# Altium footprint library Mechanical.PcbLib: 37 footprints (part 2 of 3)
Each footprint in its own frame and in the unit in brackets; x right, y up, seen from the top. Pads: shape width x height; smd on the part's side, far side on the other; paste and mask are expansions set on the pad; w line width, h text height; cw(c..) or ccw(c..) is an arc to the next point about the centre after c.
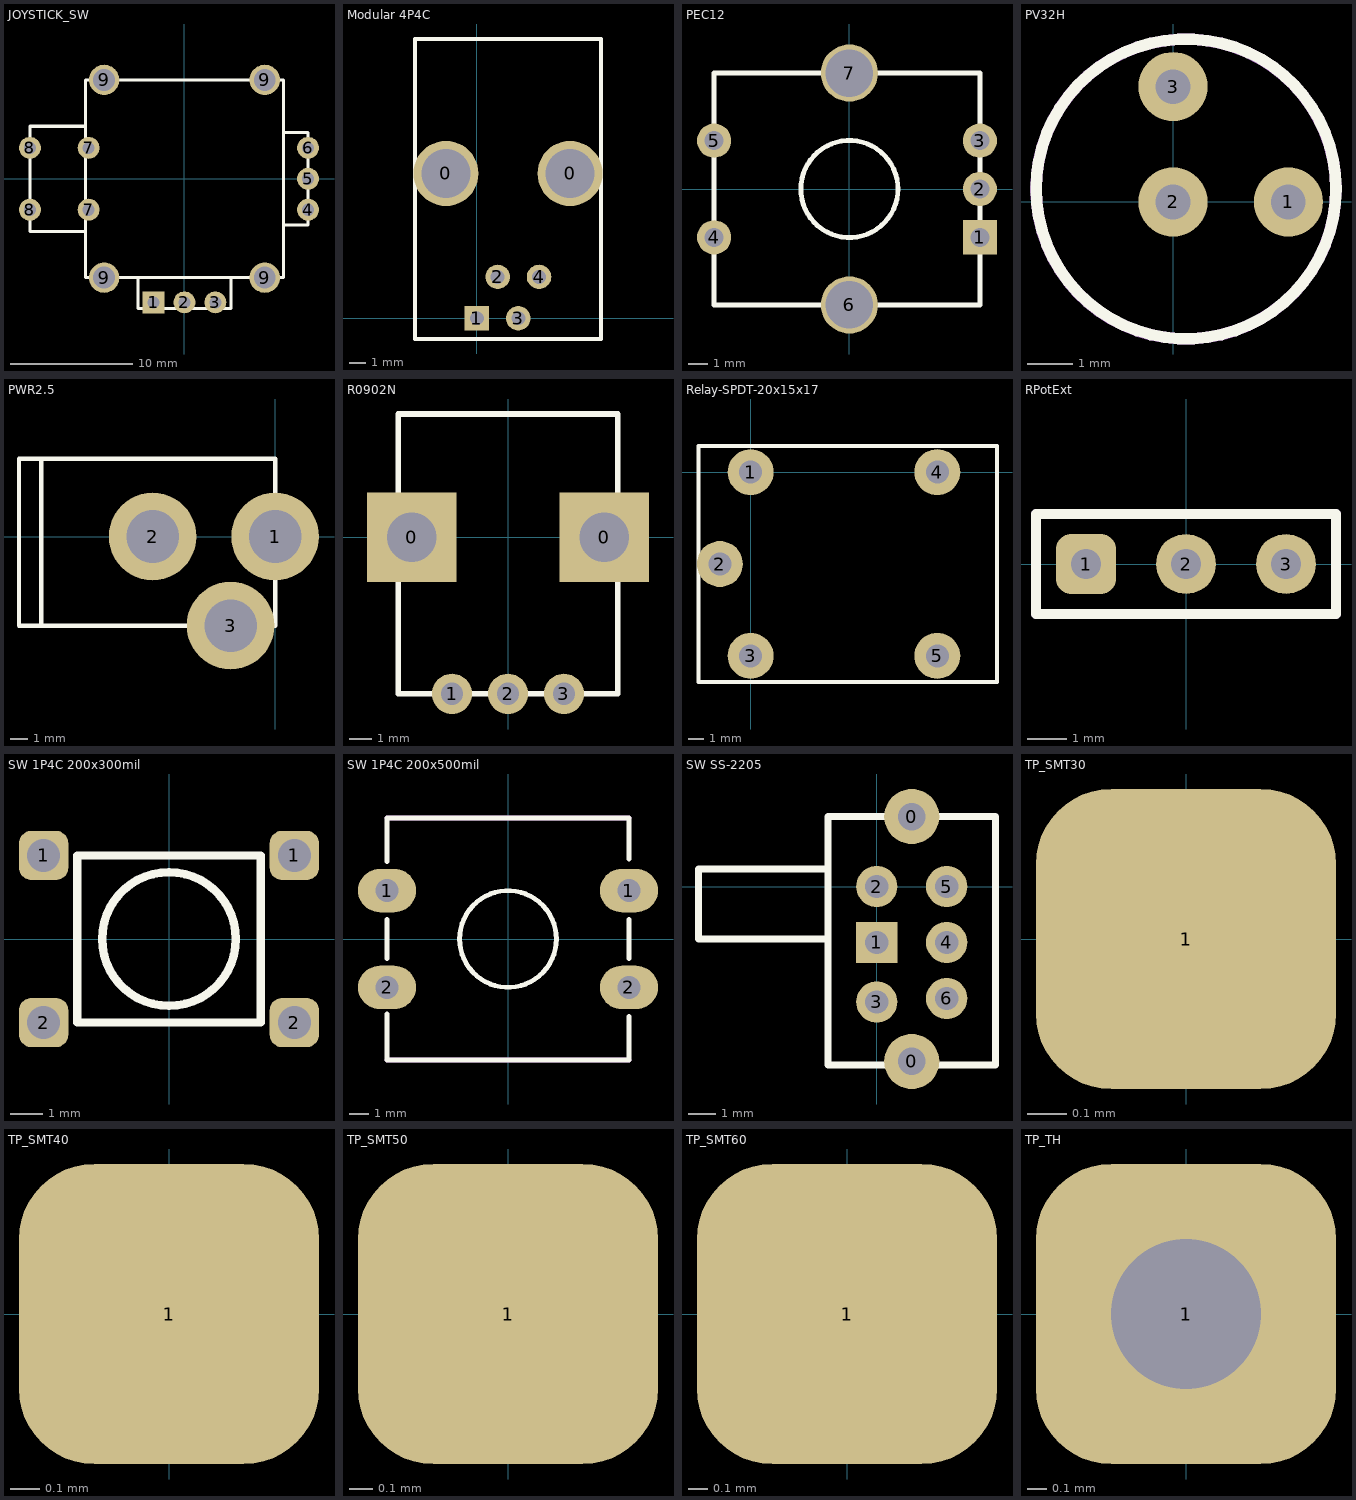
[diagram p1: the footprints below, top view; thin cyan lines are the x and y axes]

## JOYSTICK_SW [mm] "JOYSTICK"
pads (14):
  rect 1.8x1.8 hole 1: 1(-2.54,-10.16)
  round 1.8 hole 1: 2(0,-10.16) 3(2.54,-10.16) 4(10.16,-2.54) 5(10.16,0) 6(10.16,2.54) 7(-7.874,-2.54) 7(-7.874,2.54) 8(-12.7,-2.54) 8(-12.7,2.54)
  round 2.5 hole 1.8: 9(-6.604,-8.128) 9(-6.604,8.128) 9(6.604,-8.128) 9(6.604,8.128)
Top Overlay:
  lines w0.254: -8.128,-4.318 -12.7,-4.318 -12.7,4.318 -8.128,4.318 ; -3.81,-8.128 -3.81,-10.668 -2.54,-10.668 ; -3.302,-10.668 3.81,-10.668 3.81,-8.128 -8.128,-8.128 -8.128,8.128 8.128,8.128 8.128,-8.128 ; 3.302,-8.128 8.128,-8.128 ; 8.128,-3.81 10.16,-3.81 10.16,3.81 8.128,3.81 ; 8.128,-8.128 6.858,-8.128 8.128,-8.128

## Modular 4P4C [mm] "Modular jack 4P4C"
height 1.524
pads (6):
  round 4 hole 3: 0(-1.905,8.89) 0(5.715,8.89)
  rect 1.5x1.5 hole 0.85: 1(0,0)
  round 1.5 hole 0.85: 2(1.27,2.54) 3(2.54,0) 4(3.81,2.54)
Top Overlay:
  lines w0.254: -3.81,-1.27 -3.81,17.145 7.62,17.145 7.62,-1.27 -3.81,-1.27

## PEC12 [mm] "Incremental encoder with switch"
height 17.5
pads (7):
  rect 1.8x1.8 hole 1: 1(6.858,-2.54)
  round 1.8 hole 1: 2(6.858,0) 3(6.858,2.54) 4(-7.112,-2.54) 5(-7.112,2.54)
  round 3 hole 2.5: 6(0,-6.096) 7(0,6.096)
Top Overlay:
  circle w0.254: c0,0 r2.553
  lines w0.254: -7.112,-6.096 -7.112,6.096 6.858,6.096 6.858,-6.096 -7.112,-6.096

## PV32H [mil] "DxH (6.6x4.6)mm"
height 181.1
pads (3):
  round 60 hole 30: 1(100,0) 2(0,0) 3(0,100)
Top Overlay:
  circle w10: c11.31,11.31 r129.92
Mechanical 1:
  circle w10: c11.13,11.13 r129.92
3D body: height 181.1, standoff 0, extent -119.41,-120 139.41,139.33

## PWR2.5 [mm] "Power socket 2.5"
height 1.524
pads (3):
  round 5 hole 3: 1(0,0) 2(-6.985,0) 3(-2.54,-5.08)
Top Overlay:
  lines w0.254: -13.335,-5.08 -13.335,4.445 ; -2.54,-5.08 0,-5.08 ; 0,-5.08 -14.605,-5.08 -14.605,4.445 0,4.445 0,-5.08

## R0902N [mm]
height 21
pads (5):
  rect 4x4 hole 2.2: 0(-4.3,0) 0(4.3,0)
  round 1.8 hole 1: 1(-2.5,-7) 2(0,-7) 3(2.5,-7)
Top Overlay:
  lines w0.254: -4.9,-7 4.9,-7 4.9,5.5 -4.9,5.5 -4.9,0 -4.9,-7

## Relay-SPDT-20x15x17 [mm] "Single Pole Double Throw Relay"
height 17
pads (5):
  round 3 hole 1.5: 1(0,0) 2(-2,-6) 3(0,-12) 4(12.2,0) 5(12.2,-12)
Top Overlay:
  lines w0.254: -3.4,-13.7 -3.4,1.7 16.1,1.7 16.1,-13.7 -3.4,-13.7

## RPotExt [mil] "External potentiometr"
pads (3):
  rrect50% 60x60 hole 30: 1(-100,0)
  round 60 hole 30: 2(0,0) 3(100,0)
Top Overlay:
  lines w10: -150,-50 -150,50 150,50 150,-50 -150,-50
Mechanical 1:
  lines w10: -150,-50 150,-50 150,50 -150,50 -150,-50

## SW 1P4C 200x300mil [mm] "1 contact group 4 pads HTH 200x300mil"
height 20
pads (4):
  rrect50% 1.5x1.5 hole 1: 1(-3.81,2.54) 1(3.81,2.54) 2(-3.81,-2.54) 2(3.81,-2.54)
Top Overlay:
  circle w0.254: c0,0 r2.032
  lines w0.254: -2.794,-2.54 2.794,-2.54 2.794,2.54 -2.794,2.54 -2.794,-2.54

## SW 1P4C 200x500mil [mil] "1 contact group 4 pads HTH 200x500mil"
height 708.66
pads (4):
  oval 120x90 hole 47.24: 1(-250,100) 1(250,100) 2(-250,-100) 2(250,-100)
Top Overlay:
  circle w10: c0,0 r100
  lines w10: -250,-155 -250,-250 250,-250 250,-160 ; -250,-40 -250,40 ; -250,160 -250,250 250,250 250,165 ; 250,-40 250,40
Mechanical 1:
  lines w10: -250,-250 250,-250 ; -250,250 250,250
3D body: height 669.29, standoff 118.11, extent -135,-135.05 139.5,140
3D body: height 127.56, standoff 0, extent -250,-250 250,250

## SW SS-2205 [mm] "SS-2205 Dual Pairs Dual Throws"
height 1
pads (8):
  round 2 hole 1: 0(1.27,-6.35) 0(1.27,2.54)
  rect 1.5x1.5 hole 0.85: 1(0,-2.032)
  round 1.5 hole 0.85: 2(0,0) 3(0,-4.191) 4(2.54,-2.032) 5(2.54,0) 6(2.54,-4.064)
Top Overlay:
  lines w0.254: -1.778,-1.905 -6.477,-1.905 -6.477,0.635 -1.778,0.635 ; -1.778,-6.477 -1.778,2.54 4.318,2.54 4.318,-6.477 -1.778,-6.477
3D body: height 5, standoff 0, extent -1.778,-6.35 4.191,2.413
3D body: height 3.5, standoff 1.5, extent -6.35,-1.778 -1.651,0.508

## TP_SMT30 [mil] "Test point SMT 30mil"
pads (1):
  rrect50% 30x30 smd: 1(0,0)

## TP_SMT40 [mil] "Test point SMT40mil"
pads (1):
  rrect50% 40x40 smd: 1(0,0)

## TP_SMT50 [mil] "Test point SMT 50mil"
pads (1):
  rrect50% 50x50 smd: 1(0,0)

## TP_SMT60 [mil] "Test point SMT60"
pads (1):
  rrect50% 60x60 smd: 1(0,0)

## TP_TH [mil] "Test point THT"
pads (1):
  rrect50% 60x60 hole 30: 1(0,0)